# Altium footprint library Resistor - Surface Mount - 0402.PcbLib: 1 footprints
Each footprint in its own frame and in the unit in brackets; x right, y up, seen from the top. Pads: shape width x height; smd on the part's side, far side on the other; paste and mask are expansions set on the pad; w line width, h text height; cw(c..) or ccw(c..) is an arc to the next point about the centre after c.
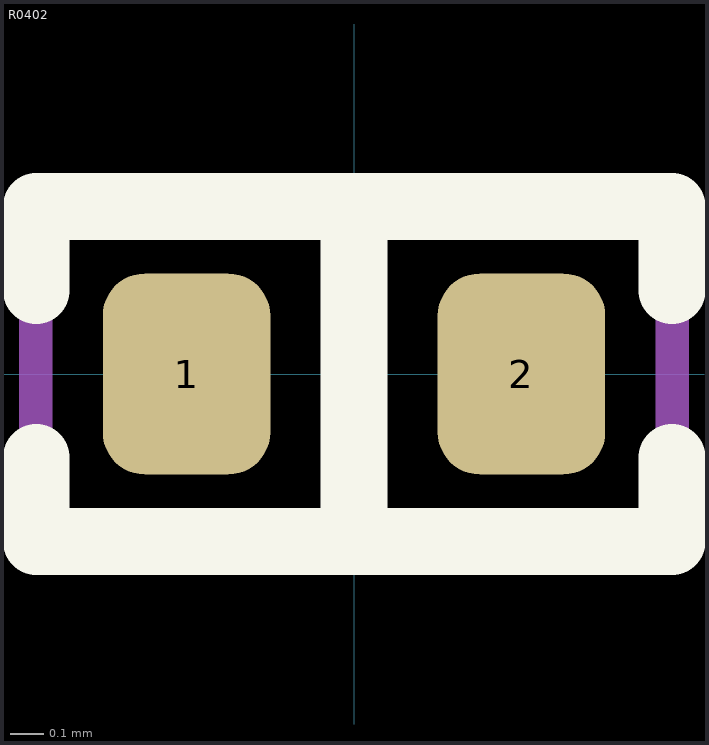
[diagram p0: the footprint, top view; thin cyan lines are the x and y axes]

## R0402 [mm]
pads (2):
  rrect50% 0.5x0.6 smd: 1(-0.5,0) 2(0.5,0)
Top Overlay:
  lines w0.2: -0.95,-0.25 -0.95,-0.5 0,-0.5 ; -0.95,0.25 -0.95,0.5 0,0.5 ; 0.95,-0.25 0.95,-0.5 0,-0.5 ; 0.95,0.25 0.95,0.5 0,0.5 ; 0,-0.5 0,0.5
Mechanical 2:
  lines w0.1: -0.95,-0.5 -0.95,0.5 0.95,0.5 0.95,-0.5 -0.95,-0.5
3D body "R0402.STEP": height 0.39, standoff -0.01, extent -0.5,-0.25 0.5,0.25